# Altium schematic symbol library CONN(2.54mm, 2x17, 34-POS, DUAL-EDGE, RA).SchLib: 1 symbol
Pins are listed as number, name and electrical type; pins without a type are passive.

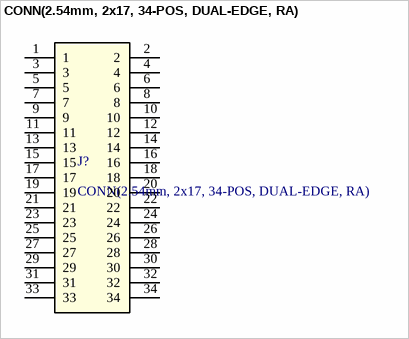
[diagram p0: symbol CONN(2.54mm, 2x17, 34-POS, DUAL-EDGE, RA)]

## CONN(2.54mm, 2x17, 34-POS, DUAL-EDGE, RA)
designator J?
Manufacturer: EDAC Inc.; Manufacturer_PN: 392-034-558-202; Datasheet: https://files.edac.net/edac/content/series/og/English/EDAC%20342%20392%20Series%20Card%20Edge%20Connectors%20English%20Ordering%20Guide.pdf; Digikey_Link: https://www.digikey.it/en/products/detail/edac-inc/392-034-558-202/11142707
footprint 392-034-558-202
pins: 1, 2, 3, 4, 5, 6, 7, 8, 9, 10, 11, 12, 13, 14, 15, 16, 17, 18, 19, 20, 21, 22, 23, 24, 25, 26, 27, 28, 29, 30, 31, 32, 33, 34